# Altium schematic symbol library AD8638ARZ.Schlib: 1 symbol
Pins are listed as number, name and electrical type; pins without a type are passive.

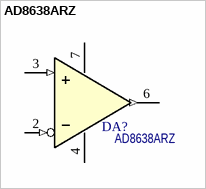
[diagram p0: symbol AD8638ARZ]

## AD8638ARZ
designator DA?
16 V Auto-Zero, Rail-to-Rail Output / Operational Amplifiers; Назначение: Операционный усилитель; Потребление, Вт: 0,015; ComponentLink1Description: DataSheet; ComponentLink1URL: https://www.analog.com/media/en/technical-documentation/data-sheets/AD8638_8639.pdf; Наименование: AD8638ARZ
footprint SOIC-8
pins: 2 In- (in), 3 In+ (in), 4 Vss-, 6 Out (out), 7 Vss+